# EAGLE library part ESP32-C3-12F (library ESP32-C3-12F)
ESP32-C3-12F Created by Egar Pambudi
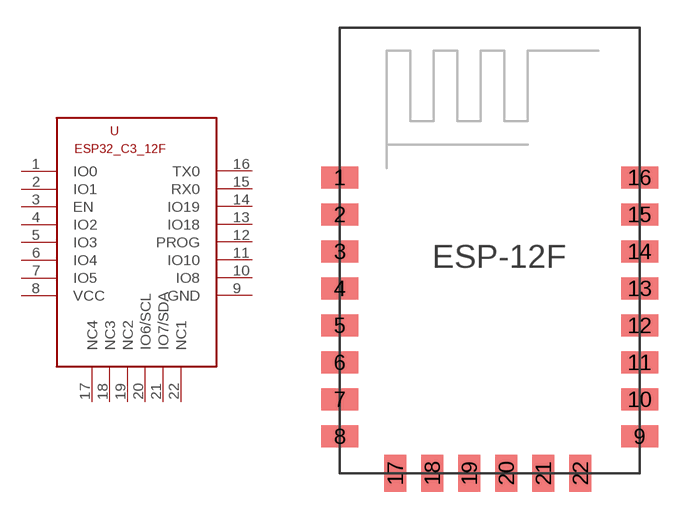
[diagram p0: symbol with the pads of ESP32-C3-12F; footprint ESP32-C3-12F]

Designator prefix -

## ESP32-C3-12FESP32-C3-12F  [ESP32-C3-12F]
1  IO0
2  IO1
3  EN
4  IO2
5  IO3
6  IO4
7  IO5
8  VCC
9  GND
10  IO8
11  IO10
12  PROG
13  IO18
14  IO19
15  RX0
16  TX0
17  NC4
18  NC3
19  NC2
20  IO6/SCL
21  IO7/SDA
22  NC1

## Footprint ESP32-C3-12F (pad centres in mm)
smd 2 x 1.2: 1 -7.62,5.84; 2 -7.62,3.84; 3 -7.62,1.84; 4 -7.62,-0.16; 5 -7.62,-2.16; 6 -7.62,-4.16; 7 -7.62,-6.16; 8 -7.62,-8.16; 9 8.58,-8.16; 10 8.58,-6.16; 11 8.58,-4.16; 12 8.58,-2.16; 13 8.58,-0.16; 14 8.58,1.84; 15 8.58,3.84; 16 8.58,5.84
smd 1.2 x 2: 17 -4.62,-10.16; 18 -2.62,-10.16; 19 -0.62,-10.16; 20 1.38,-10.16; 21 3.38,-10.16; 22 5.38,-10.16